# Altium schematic symbol library sensor_s.SchLib: 5 symbols
Pins are listed as number, name and electrical type; pins without a type are passive.

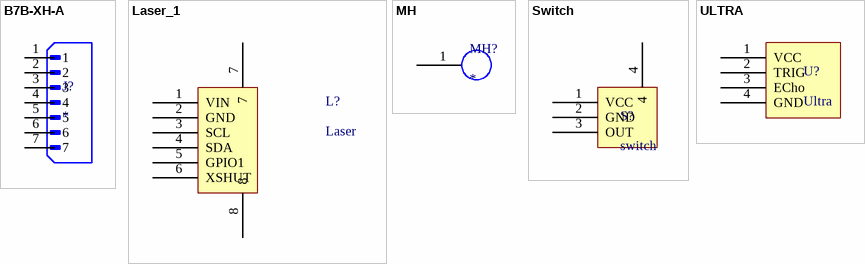
[diagram p0: symbols B7B-XH-A to ULTRA]

## B7B-XH-A
designator J?
Connector Header Through Hole 7 position 0.098 (2.50mm); MF: JST Sales; MP: B7B-XH-A; SnapEDA_Link: https://www.snapeda.com/parts/B7B-XH-A/JST+Sales+America+Inc./view-part/?ref=snap; Package: None; Value: *; Check_prices: https://www.snapeda.com/parts/B7B-XH-A/JST+Sales+America+Inc./view-part/?ref=eda
footprint JST_B7B-XH-A
pins: 1, 2, 3, 4, 5, 6, 7

## Laser_1
designator L?, comment Laser
footprint laser_1
pins: 1 VIN, 2 GND, 3 SCL, 4 SDA, 5 GPIO1, 6 XSHUT, 7, 8

## MH
designator MH?
footprint MH
pins: 1

## Switch
designator S?, comment switch
footprint Switch
pins: 1 VCC, 2 GND, 3 OUT, 4

## ULTRA
designator U?, comment Ultra
footprint UltraSoic
pins: 1 VCC, 2 TRIG, 3 ECho, 4 GND